# EAGLE library part SX1272 (library RadioShield)
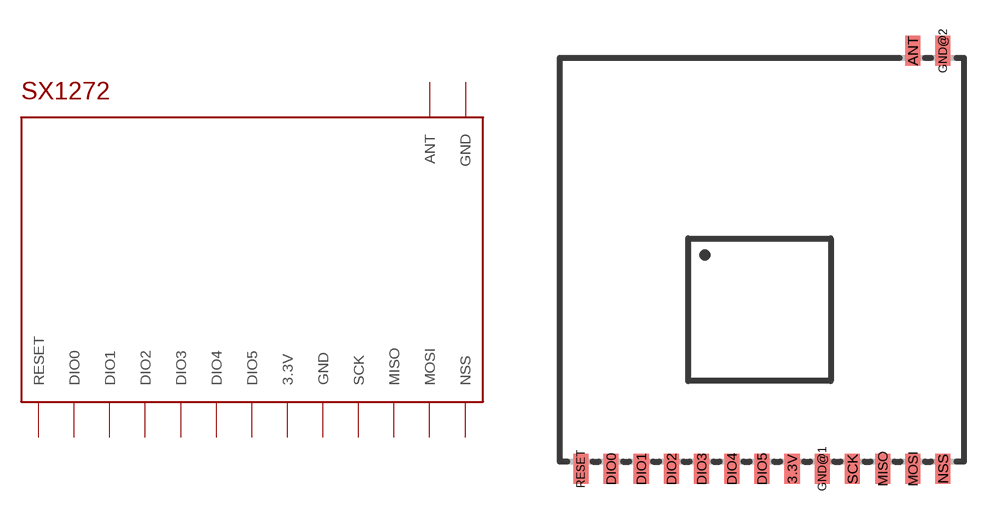
[diagram p8: symbol with the pads of SX1272; footprint SX1272]

Designator prefix -

## SX1272  [SX1272]
3.3V  3.3V
ANT  ANT
DIO0  DIO0
DIO1  DIO1
DIO2  DIO2
DIO3  DIO3
DIO4  DIO4
DIO5  DIO5
GND@1  GND
GND@2  GND
MISO  MISO
MOSI  MOSI
NSS  NSS
RESET  RESET
SCK  SCK

## Footprint SX1272 (pad centres in mm)
smd 0.635 x 1.27: 3.3V 1.27,-8.8; ANT 6.35,8.8; DIO0 -6.35,-8.8; DIO1 -5.08,-8.8; DIO2 -3.81,-8.8; DIO3 -2.54,-8.8; DIO4 -1.27,-8.8; DIO5 0,-8.8; GND@1 2.54,-8.8; GND@2 7.62,8.8; MISO 5.08,-8.8; MOSI 6.35,-8.8; NSS 7.62,-8.8; RESET -7.62,-8.8; SCK 3.81,-8.8